# EAGLE library part SWITCH-4PDT (library switch-alps-jlb)
For use with a push-button switch made by ALPS components. The Part # is
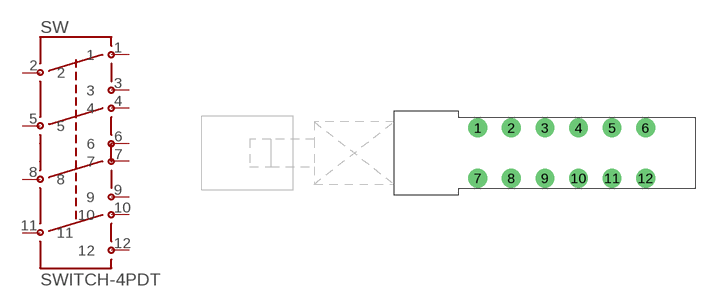
[diagram p0: symbol with the pads of SWITCH-4PDT-ALPS; footprint SWITCH-4PDT-ALPS]

Designator prefix SW

## SWITCH-4PDT  [SWITCH-4PDT-ALPS]
1  1
2  2
3  3
4  4
5  5
6  6
7  7
8  8
9  9
10  10
11  11
12  12

## Footprint SWITCH-4PDT-ALPS (pad centres in mm)
drill 1.5: 1 0,3; 2 4,3; 3 8,3; 4 12,3; 5 16,3; 6 20,3; 7 0,-3; 8 4,-3; 9 8,-3; 10 12,-3; 11 16,-3; 12 20,-3